# Altium schematic symbol library SCH - POWER - LINEAR VREG - TI TPS7A20DBV.SchLib: 1 symbol
Pins are listed as number, name and electrical type; pins without a type are passive.

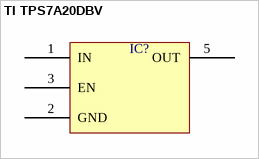
[diagram p0: symbol TI TPS7A20DBV]

## TI TPS7A20DBV
designator IC?  (value not drawn)
pins: 1 IN, 2 GND, 3 EN, 5 OUT